# Altium footprint library Inductor_NRS5020T1R0NMGJ_2-PIN.PcbLib: 1 footprints
Each footprint in its own frame and in the unit in brackets; x right, y up, seen from the top. Pads: shape width x height; smd on the part's side, far side on the other; paste and mask are expansions set on the pad; w line width, h text height; cw(c..) or ccw(c..) is an arc to the next point about the centre after c.
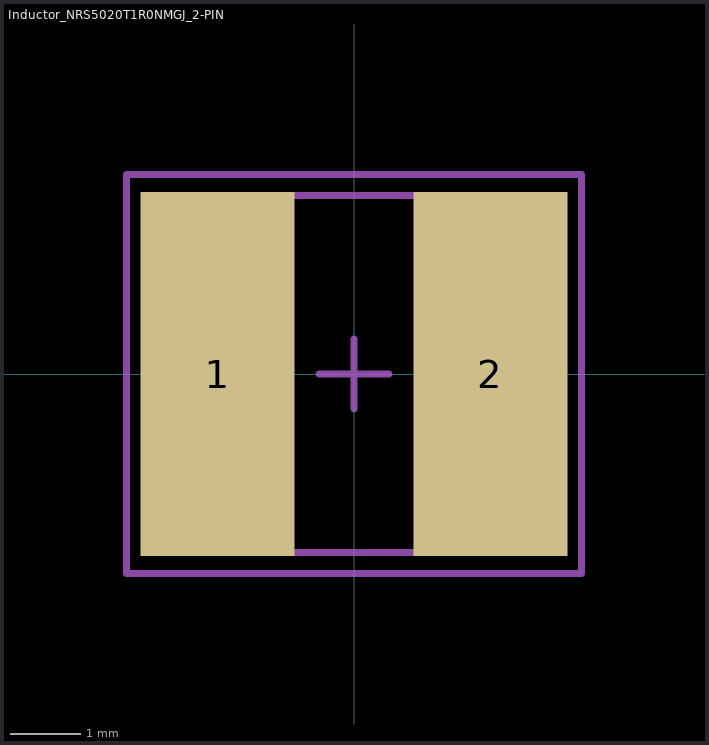
[diagram p0: the footprint, top view; thin cyan lines are the x and y axes]

## Inductor_NRS5020T1R0NMGJ_2-PIN [mm]
height 2
pads (2):
  rect 2.2x5.2 smd: 1(-1.95,0) 2(1.95,0)
Mechanical 13:
  lines w0.1: -2.55,-2.55 2.55,-2.55 2.55,2.55 -2.55,2.55 -2.55,-2.55
Mechanical 15:
  lines w0.1: -0.5,0 0.5,0 ; 0,-0.5 0,0.5 ; -3.25,-2.85 3.25,-2.85 3.25,2.85 -3.25,2.85 -3.25,-2.85
3D body: height 2, standoff 0, extent -2.55,-2.55 2.55,2.55